# Altium schematic symbol library SCH - MCU - STM32 - ST MICROELECTRONICS STM32H7B3VITX LQFP100.SchLib: 1 symbol
Pins are listed as number, name and electrical type; pins without a type are passive.

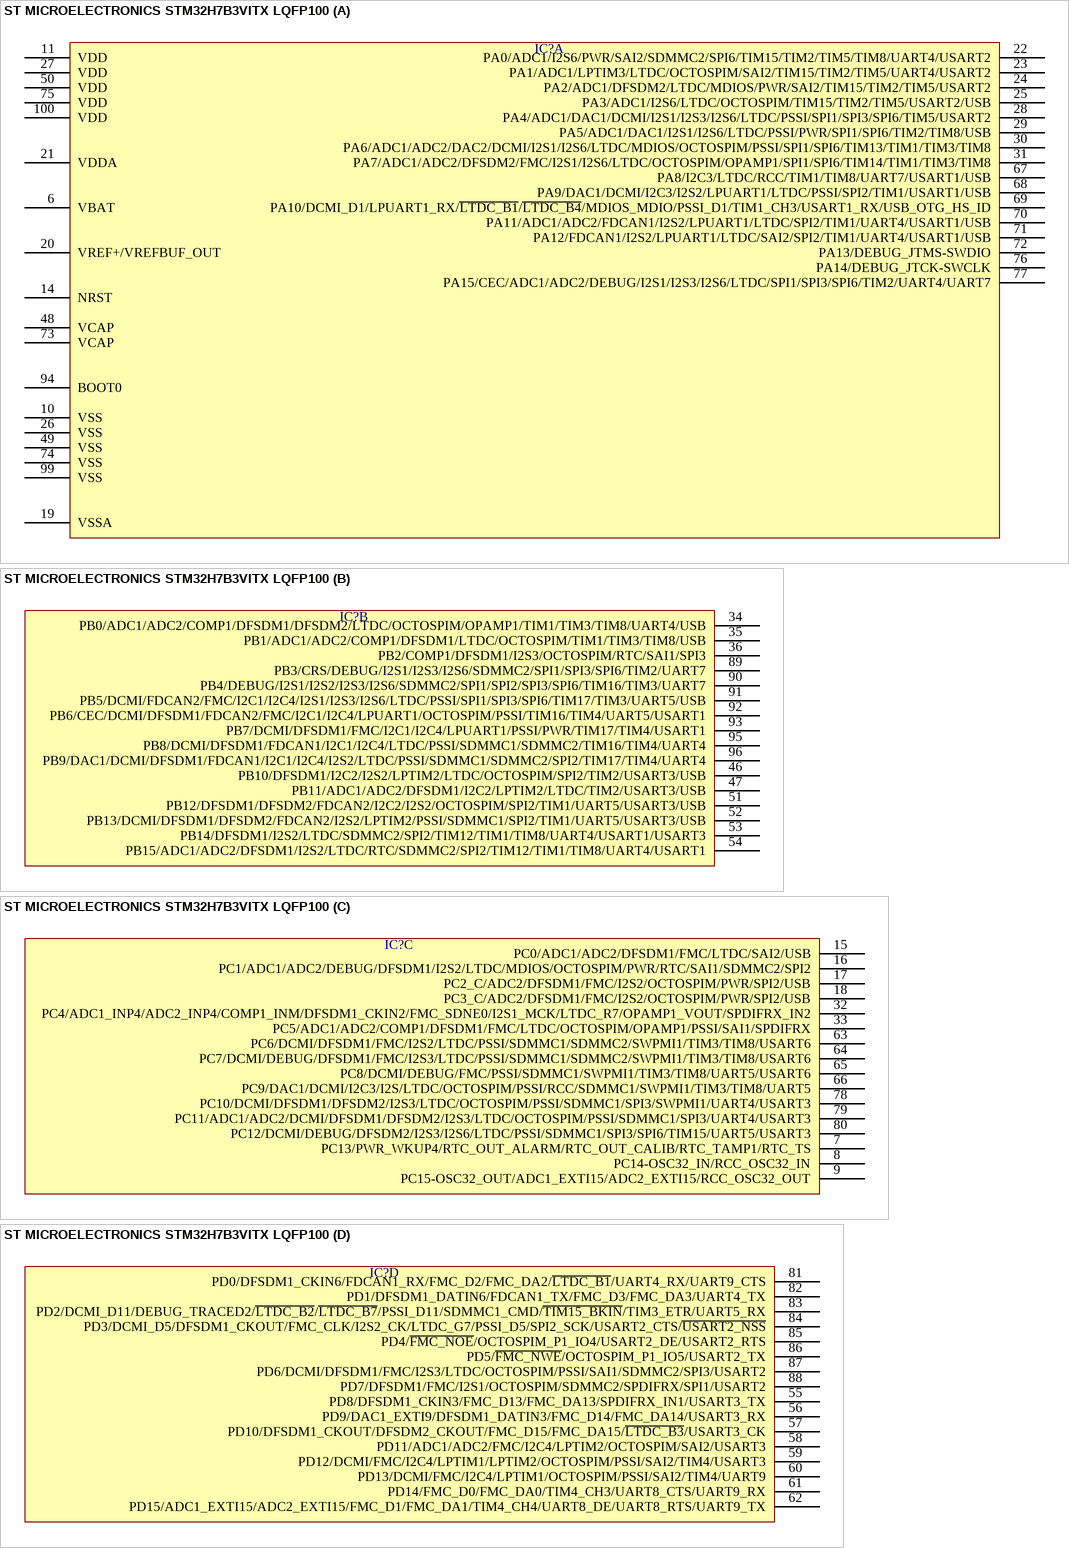
[diagram p0: symbol ST MICROELECTRONICS STM32H7B3VITX LQFP100]

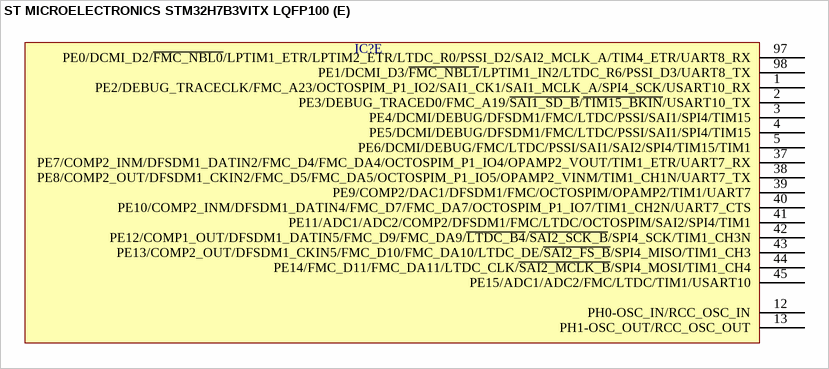
[diagram p1: symbol ST MICROELECTRONICS STM32H7B3VITX LQFP100]

## ST MICROELECTRONICS STM32H7B3VITX LQFP100
designator IC?  (value not drawn)
part A pins: 6 VBAT, 10 VSS, 11 VDD, 14 NRST, 19 VSSA, 20 VREF+/VREFBUF_OUT, 21 VDDA, 22 PA0/ADC1/I2S6/PWR/SAI2/SDMMC2/SPI6/TIM15/TIM2/TIM5/TIM8/UART4/USART2, 23 PA1/ADC1/LPTIM3/LTDC/OCTOSPIM/SAI2/TIM15/TIM2/TIM5/UART4/USART2, 24 PA2/ADC1/DFSDM2/LTDC/MDIOS/PWR/SAI2/TIM15/TIM2/TIM5/USART2, 25 PA3/ADC1/I2S6/LTDC/OCTOSPIM/TIM15/TIM2/TIM5/USART2/USB, 26 VSS, 27 VDD, 28 PA4/ADC1/DAC1/DCMI/I2S1/I2S3/I2S6/LTDC/PSSI/SPI1/SPI3/SPI6/TIM5/USART2, 29 PA5/ADC1/DAC1/I2S1/I2S6/LTDC/PSSI/PWR/SPI1/SPI6/TIM2/TIM8/USB, 30 PA6/ADC1/ADC2/DAC2/DCMI/I2S1/I2S6/LTDC/MDIOS/OCTOSPIM/PSSI/SPI1/SPI6/TIM13/TIM1/TIM3/TIM8, 31 PA7/ADC1/ADC2/DFSDM2/FMC/I2S1/I2S6/LTDC/OCTOSPIM/OPAMP1/SPI1/SPI6/TIM14/TIM1/TIM3/TIM8, 48 VCAP, 49 VSS, 50 VDD, 67 PA8/I2C3/LTDC/RCC/TIM1/TIM8/UART7/USART1/USB, 68 PA9/DAC1/DCMI/I2C3/I2S2/LPUART1/LTDC/PSSI/SPI2/TIM1/USART1/USB, 69 PA10/DCMI_D1/LPUART1_RX/~{LTDC_B1}/~{LTDC_B4}/MDIOS_MDIO/PSSI_D1/TIM1_CH3/USART1_RX/USB_OTG_HS_ID, 70 PA11/ADC1/ADC2/FDCAN1/I2S2/LPUART1/LTDC/SPI2/TIM1/UART4/USART1/USB, 71 PA12/FDCAN1/I2S2/LPUART1/LTDC/SAI2/SPI2/TIM1/UART4/USART1/USB, 72 PA13/DEBUG_JTMS-SWDIO, 73 VCAP, 74 VSS, 75 VDD, 76 PA14/DEBUG_JTCK-SWCLK, 77 PA15/CEC/ADC1/ADC2/DEBUG/I2S1/I2S3/I2S6/LTDC/SPI1/SPI3/SPI6/TIM2/UART4/UART7, 94 BOOT0, 99 VSS, 100 VDD
part B pins: 34 PB0/ADC1/ADC2/COMP1/DFSDM1/DFSDM2/LTDC/OCTOSPIM/OPAMP1/TIM1/TIM3/TIM8/UART4/USB, 35 PB1/ADC1/ADC2/COMP1/DFSDM1/LTDC/OCTOSPIM/TIM1/TIM3/TIM8/USB, 36 PB2/COMP1/DFSDM1/I2S3/OCTOSPIM/RTC/SAI1/SPI3, 46 PB10/DFSDM1/I2C2/I2S2/LPTIM2/LTDC/OCTOSPIM/SPI2/TIM2/USART3/USB, 47 PB11/ADC1/ADC2/DFSDM1/I2C2/LPTIM2/LTDC/TIM2/USART3/USB, 51 PB12/DFSDM1/DFSDM2/FDCAN2/I2C2/I2S2/OCTOSPIM/SPI2/TIM1/UART5/USART3/USB, 52 PB13/DCMI/DFSDM1/DFSDM2/FDCAN2/I2S2/LPTIM2/PSSI/SDMMC1/SPI2/TIM1/UART5/USART3/USB, 53 PB14/DFSDM1/I2S2/LTDC/SDMMC2/SPI2/TIM12/TIM1/TIM8/UART4/USART1/USART3, 54 PB15/ADC1/ADC2/DFSDM1/I2S2/LTDC/RTC/SDMMC2/SPI2/TIM12/TIM1/TIM8/UART4/USART1, 89 PB3/CRS/DEBUG/I2S1/I2S3/I2S6/SDMMC2/SPI1/SPI3/SPI6/TIM2/UART7, 90 PB4/DEBUG/I2S1/I2S2/I2S3/I2S6/SDMMC2/SPI1/SPI2/SPI3/SPI6/TIM16/TIM3/UART7, 91 PB5/DCMI/FDCAN2/FMC/I2C1/I2C4/I2S1/I2S3/I2S6/LTDC/PSSI/SPI1/SPI3/SPI6/TIM17/TIM3/UART5/USB, 92 PB6/CEC/DCMI/DFSDM1/FDCAN2/FMC/I2C1/I2C4/LPUART1/OCTOSPIM/PSSI/TIM16/TIM4/UART5/USART1, 93 PB7/DCMI/DFSDM1/FMC/I2C1/I2C4/LPUART1/PSSI/PWR/TIM17/TIM4/USART1, 95 PB8/DCMI/DFSDM1/FDCAN1/I2C1/I2C4/LTDC/PSSI/SDMMC1/SDMMC2/TIM16/TIM4/UART4, 96 PB9/DAC1/DCMI/DFSDM1/FDCAN1/I2C1/I2C4/I2S2/LTDC/PSSI/SDMMC1/SDMMC2/SPI2/TIM17/TIM4/UART4
part C pins: 7 PC13/PWR_WKUP4/RTC_OUT_ALARM/RTC_OUT_CALIB/RTC_TAMP1/RTC_TS, 8 PC14-OSC32_IN/RCC_OSC32_IN, 9 PC15-OSC32_OUT/ADC1_EXTI15/ADC2_EXTI15/RCC_OSC32_OUT, 15 PC0/ADC1/ADC2/DFSDM1/FMC/LTDC/SAI2/USB, 16 PC1/ADC1/ADC2/DEBUG/DFSDM1/I2S2/LTDC/MDIOS/OCTOSPIM/PWR/RTC/SAI1/SDMMC2/SPI2, 17 PC2_C/ADC2/DFSDM1/FMC/I2S2/OCTOSPIM/PWR/SPI2/USB, 18 PC3_C/ADC2/DFSDM1/FMC/I2S2/OCTOSPIM/PWR/SPI2/USB, 32 PC4/ADC1_INP4/ADC2_INP4/COMP1_INM/DFSDM1_CKIN2/FMC_SDNE0/I2S1_MCK/LTDC_R7/OPAMP1_VOUT/SPDIFRX_IN2, 33 PC5/ADC1/ADC2/COMP1/DFSDM1/FMC/LTDC/OCTOSPIM/OPAMP1/PSSI/SAI1/SPDIFRX, 63 PC6/DCMI/DFSDM1/FMC/I2S2/LTDC/PSSI/SDMMC1/SDMMC2/SWPMI1/TIM3/TIM8/USART6, 64 PC7/DCMI/DEBUG/DFSDM1/FMC/I2S3/LTDC/PSSI/SDMMC1/SDMMC2/SWPMI1/TIM3/TIM8/USART6, 65 PC8/DCMI/DEBUG/FMC/PSSI/SDMMC1/SWPMI1/TIM3/TIM8/UART5/USART6, 66 PC9/DAC1/DCMI/I2C3/I2S/LTDC/OCTOSPIM/PSSI/RCC/SDMMC1/SWPMI1/TIM3/TIM8/UART5, 78 PC10/DCMI/DFSDM1/DFSDM2/I2S3/LTDC/OCTOSPIM/PSSI/SDMMC1/SPI3/SWPMI1/UART4/USART3, 79 PC11/ADC1/ADC2/DCMI/DFSDM1/DFSDM2/I2S3/LTDC/OCTOSPIM/PSSI/SDMMC1/SPI3/UART4/USART3, 80 PC12/DCMI/DEBUG/DFSDM2/I2S3/I2S6/LTDC/PSSI/SDMMC1/SPI3/SPI6/TIM15/UART5/USART3
part D pins: 55 PD8/DFSDM1_CKIN3/FMC_D13/FMC_DA13/SPDIFRX_IN1/USART3_TX, 56 PD9/DAC1_EXTI9/DFSDM1_DATIN3/FMC_D14/FMC_DA14/USART3_RX, 57 PD10/DFSDM1_CKOUT/DFSDM2_CKOUT/FMC_D15/FMC_DA15/~{LTDC_B3}/USART3_CK, 58 PD11/ADC1/ADC2/FMC/I2C4/LPTIM2/OCTOSPIM/SAI2/USART3, 59 PD12/DCMI/FMC/I2C4/LPTIM1/LPTIM2/OCTOSPIM/PSSI/SAI2/TIM4/USART3, 60 PD13/DCMI/FMC/I2C4/LPTIM1/OCTOSPIM/PSSI/SAI2/TIM4/UART9, 61 PD14/FMC_D0/FMC_DA0/TIM4_CH3/UART8_CTS/UART9_RX, 62 PD15/ADC1_EXTI15/ADC2_EXTI15/FMC_D1/FMC_DA1/TIM4_CH4/UART8_DE/UART8_RTS/UART9_TX, 81 PD0/DFSDM1_CKIN6/FDCAN1_RX/FMC_D2/FMC_DA2/~{LTDC_B1}/UART4_RX/UART9_CTS, 82 PD1/DFSDM1_DATIN6/FDCAN1_TX/FMC_D3/FMC_DA3/UART4_TX, 83 PD2/DCMI_D11/DEBUG_TRACED2/~{LTDC_B2}/~{LTDC_B7}/PSSI_D11/SDMMC1_CMD/~{TIM15_BKIN}/TIM3_ETR/UART5_RX, 84 PD3/DCMI_D5/DFSDM1_CKOUT/FMC_CLK/I2S2_CK/LTDC_G7/PSSI_D5/SPI2_SCK/USART2_CTS/~{USART2_NSS}, 85 PD4/~{FMC_NOE}/OCTOSPIM_P1_IO4/USART2_DE/USART2_RTS, 86 PD5/~{FMC_NWE}/OCTOSPIM_P1_IO5/USART2_TX, 87 PD6/DCMI/DFSDM1/FMC/I2S3/LTDC/OCTOSPIM/PSSI/SAI1/SDMMC2/SPI3/USART2, 88 PD7/DFSDM1/FMC/I2S1/OCTOSPIM/SDMMC2/SPDIFRX/SPI1/USART2
part E pins: 1 PE2/DEBUG_TRACECLK/FMC_A23/OCTOSPIM_P1_IO2/SAI1_CK1/SAI1_MCLK_A/SPI4_SCK/USART10_RX, 2 PE3/DEBUG_TRACED0/FMC_A19/~{SAI1_SD_B}/~{TIM15_BKIN}/USART10_TX, 3 PE4/DCMI/DEBUG/DFSDM1/FMC/LTDC/PSSI/SAI1/SPI4/TIM15, 4 PE5/DCMI/DEBUG/DFSDM1/FMC/LTDC/PSSI/SAI1/SPI4/TIM15, 5 PE6/DCMI/DEBUG/FMC/LTDC/PSSI/SAI1/SAI2/SPI4/TIM15/TIM1, 12 PH0-OSC_IN/RCC_OSC_IN, 13 PH1-OSC_OUT/RCC_OSC_OUT, 37 PE7/COMP2_INM/DFSDM1_DATIN2/FMC_D4/FMC_DA4/OCTOSPIM_P1_IO4/OPAMP2_VOUT/TIM1_ETR/UART7_RX, 38 PE8/COMP2_OUT/DFSDM1_CKIN2/FMC_D5/FMC_DA5/OCTOSPIM_P1_IO5/OPAMP2_VINM/TIM1_CH1N/UART7_TX, 39 PE9/COMP2/DAC1/DFSDM1/FMC/OCTOSPIM/OPAMP2/TIM1/UART7, 40 PE10/COMP2_INM/DFSDM1_DATIN4/FMC_D7/FMC_DA7/OCTOSPIM_P1_IO7/TIM1_CH2N/UART7_CTS, 41 PE11/ADC1/ADC2/COMP2/DFSDM1/FMC/LTDC/OCTOSPIM/SAI2/SPI4/TIM1, 42 PE12/COMP1_OUT/DFSDM1_DATIN5/FMC_D9/FMC_DA9/~{LTDC_B4}/~{SAI2_SCK_B}/SPI4_SCK/TIM1_CH3N, 43 PE13/COMP2_OUT/DFSDM1_CKIN5/FMC_D10/FMC_DA10/LTDC_DE/~{SAI2_FS_B}/SPI4_MISO/TIM1_CH3, 44 PE14/FMC_D11/FMC_DA11/LTDC_CLK/~{SAI2_MCLK_B}/SPI4_MOSI/TIM1_CH4, 45 PE15/ADC1/ADC2/FMC/LTDC/TIM1/USART10, 97 PE0/DCMI_D2/~{FMC_NBL0}/LPTIM1_ETR/LPTIM2_ETR/LTDC_R0/PSSI_D2/SAI2_MCLK_A/TIM4_ETR/UART8_RX, 98 PE1/DCMI_D3/~{FMC_NBL1}/LPTIM1_IN2/LTDC_R6/PSSI_D3/UART8_TX